# EAGLE library part CD74HC237M96 (library texas)
CD74HC237M96 3 bit demultiplexer High output
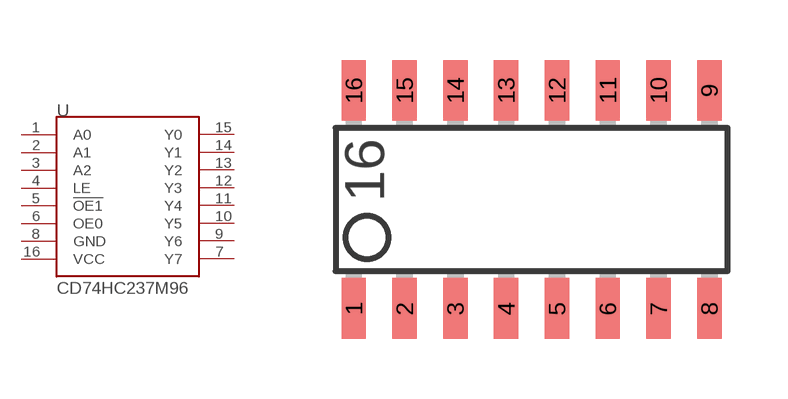
[diagram p126: symbol with the pads of SO-16; footprint SO-16]

Designator prefix -

## CD74HC237M96  [SO-16]
1  A0  in
2  A1  in
3  A2  in
4  LE  in
5  !OE1!  in
6  OE0  in
7  Y7  out
8  GND  sup
9  Y6  out
10  Y5  out
11  Y4  out
12  Y3  out
13  Y2  out
14  Y1  out
15  Y0  out
16  VCC  sup

## Footprint SO-16 (pad centres in mm)
Small Outline Integrated Circuit
smd 0.61 x 1.524: 1 -4.445,-2.794; 2 -3.175,-2.794; 3 -1.905,-2.794; 4 -0.635,-2.794; 5 0.635,-2.794; 6 1.905,-2.794; 7 3.175,-2.794; 8 4.445,-2.794; 9 4.445,2.667; 10 3.175,2.667; 11 1.905,2.667; 12 0.635,2.667; 13 -0.635,2.667; 14 -1.905,2.667; 15 -3.175,2.667; 16 -4.445,2.667